# EAGLE library part USB_3G_MODEM (library dragino)
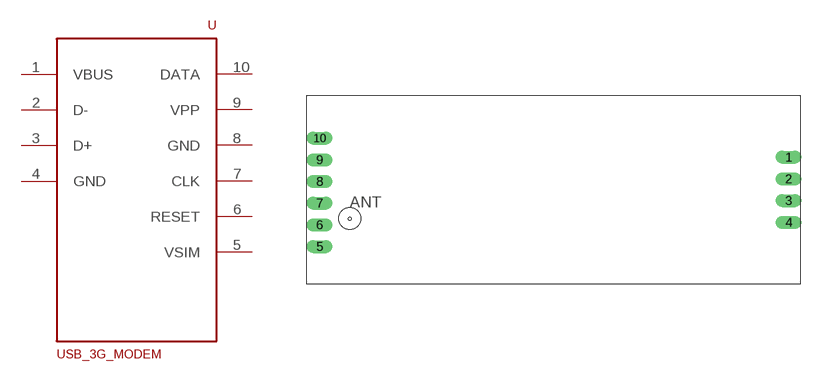
[diagram p25: symbol with the pads of UW980-X4M8B; footprint UW980-X4M8B]

Designator prefix -

## USB_3G_MODEM  [UW980-X4M8B]
1  VBUS
2  D-
3  D+
4  GND
5  VSIM
6  RESET
7  CLK
8  GND
9  VPP
10  DATA

## Footprint UW980-X4M8B (pad centres in mm)
drill 1.016 long: 1 56.5,14.81; 2 56.5,12.27; 3 56.5,9.73; 4 56.5,7.19; 5 1.57,4.35; 6 1.57,6.89; 7 1.57,9.43; 8 1.57,11.97; 9 1.57,14.51; 10 1.57,17.05